# EAGLE library part TI_LMZ34002 (library Poe)
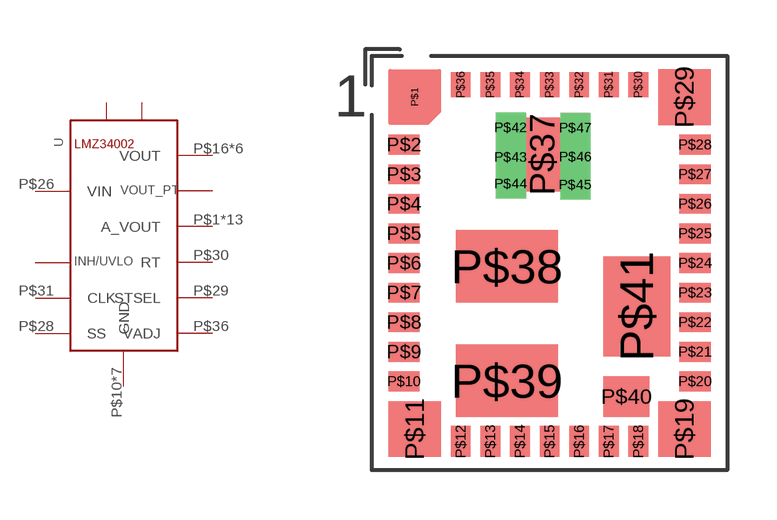
[diagram p16: symbol with the pads of TI_LMZ34002; footprint TI_LMZ34002]

Designator prefix U

## TI_LMZ34002  [TI_LMZ34002]
P$1  A_VOUT
P$4  A_VOUT
P$5  A_VOUT
P$6  ISLAND2
P$7  ISLAND1
P$8  VOUT_PT
P$9  VOUT_PT
P$10  GND
P$11  GND
P$12  GND
P$13  GND
P$14  GND
P$15  GND
P$16  VOUT
P$17  VOUT
P$18  VOUT
P$19  VOUT
P$20  VOUT
P$21  ISLAND1
P$22  ISLAND1
P$23  ISLAND1
P$24  ISLAND1
P$26  VIN
P$27  INH/UVLO
P$28  SS
P$29  STSEL
P$30  RT
P$31  CLK
P$32  A_VOUT
P$33  A_VOUT
P$34  A_VOUT
P$36  VADJ
P$37  A_VOUT
P$38  ISLAND1
P$39  GND
P$40  VOUT
P$41  ISLAND1
P$42  A_VOUT
P$43  A_VOUT
P$44  A_VOUT
P$45  A_VOUT
P$46  A_VOUT
P$47  A_VOUT

## Footprint TI_LMZ34002 (pad centres in mm)
smd 0.5 x 0.5: P$1 -4.1,5.05
smd 0.95 x 0.6: P$2 -4.425,3.6; P$3 -4.425,2.7; P$4 -4.425,1.8; P$5 -4.425,0.9; P$6 -4.425,0; P$7 -4.425,-0.9; P$8 -4.425,-1.8; P$9 -4.425,-2.7; P$10 -4.425,-3.6; P$20 4.425,-3.6; P$21 4.425,-2.7; P$22 4.425,-1.8; P$23 4.425,-0.9; P$24 4.425,0; P$25 4.425,0.9; P$26 4.425,1.8; P$27 4.425,2.7; P$28 4.425,3.6
smd 1.6 x 1.7: P$11 -4.1,-5.05; P$19 4.1,-5.05; P$29 4.1,5.05
smd 0.6 x 0.95: P$12 -2.7,-5.425; P$13 -1.8,-5.425; P$14 -0.9,-5.425; P$15 0,-5.425; P$16 0.9,-5.425; P$17 1.8,-5.425; P$18 2.7,-5.425
smd 0.6 x 0.75: P$30 2.7,5.425; P$31 1.8,5.425; P$32 0.9,5.425; P$33 0,5.425; P$34 -0.9,5.425; P$35 -1.8,5.425; P$36 -2.7,5.425
smd 1.1 x 2.25: P$37 -0.22,3.3
smd 3.1 x 2.2: P$38 -1.3,-0.1; P$39 -1.3,-3.58
smd 1.4 x 1.24: P$40 2.33,-4.06
smd 2.04 x 3.05: P$41 2.65,-1.32
drill 0.4 square: P$42 -1.18,4.12; P$43 -1.18,3.22; P$44 -1.18,2.41; P$45 0.78,2.38; P$46 0.79,3.23; P$47 0.79,4.11